# Altium schematic symbol library Transistor_FET_Other.SchLib: 16 symbols
Pins are listed as number, name and electrical type; pins without a type are passive.

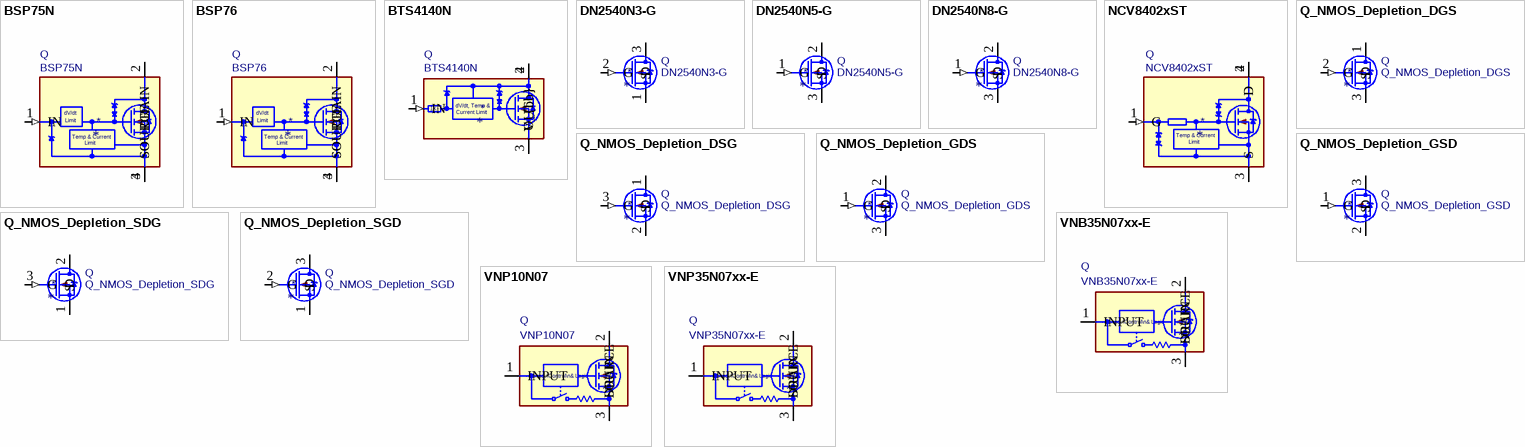
[diagram p0: symbols BSP75N to VNP35N07xx-E]

## BSP75N
designator *  value BSP75N  Reference: Q
Self-Protected Low Side Driver with Temperature and Current Limit, SOT−223; ki_keywords: MOSFET ESD Overcurrent Obsolete; ki_fp_filters: SOT?223*; Footprint: Package_TO_SOT_SMD:SOT-223; Datasheet: https://www.infineon.com/dgdl/Infineon-BSP75N-DS-v01_04-en.pdf?fileId=db3a30431ed1d7b2011f471f5a0256d1; Description_: Self-Protected Low Side Driver with Temperature and Current Limit, SOT−223
pins: 1 IN (in), 2 DRAIN, 3 SOURCE, 4 SOURCE
text: dV/dt; Limit; Temp & Current

## BSP76
designator *  value BSP76  Reference: Q
Self-Protected Low Side Driver with Temperature and Current Limit, 42 V Vds, 1.4 A Id, 200 mOhm Rds, SOT-223; ki_keywords: MOSFET ESD Overcurrent LowSideSwitch automotive; ki_fp_filters: SOT?223*; Footprint: Package_TO_SOT_SMD:SOT-223-3_TabPin2; Datasheet: https://www.infineon.com/dgdl/Infineon-BSP76-DS-v01_03-en.pdf?fileId=db3a3043271faefd01274d00e2695d45; Description_: Self-Protected Low Side Driver with Temperature and Current Limit, 42 V Vds, 1.4 A Id, 200 mOhm Rds, SOT-223
pins: 1 IN (in), 2 DRAIN, 3 SOURCE, 4 SOURCE
text: dV/dt; Limit; Temp & Current

## BTS4140N
designator *  value BTS4140N  Reference: Q
60V, 0.2A, 1ohm Rds, Self-Protected High Side Driver with Temperature and Current Limit, SOT−223; ki_keywords: MOSFET ESD Overcurrent; ki_fp_filters: SOT?223*; Footprint: Package_TO_SOT_SMD:SOT-223; Datasheet: https://www.infineon.com/dgdl/Infineon-BTS4140N-DS-v01_01-EN.pdf?fileId=5546d46259d9a4bf015a852aac8b7785; Description_: 60V, 0.2A, 1ohm Rds, Self-Protected High Side Driver with Temperature and Current Limit, SOT−223
pins: 1 IN (in), 2 V_{bb}, 3 OUT, 4 V_{bb}
text: 1K; Current Limit; dV/dt, Temp &

## DN2540N3-G
designator *  value DN2540N3-G  Reference: Q
150mA Ids, 400 Vds, Depletion-mode N-channel MOSFET, TO-92; ki_keywords: N-Channel Depletion-Mode MOSFET; ki_fp_filters: TO?92*; Footprint: Package_TO_SOT_THT:TO-92_Inline; Datasheet: https://ww1.microchip.com/downloads/en/DeviceDoc/DN2540%20B060313.pdf; Description_: 150mA Ids, 400 Vds, Depletion-mode N-channel MOSFET, TO-92
pins: 1 S, 2 G (in), 3 D

## DN2540N5-G
designator *  value DN2540N5-G  Reference: Q
150mA Ids, 400 Vds, Depletion-mode N-channel MOSFET, TO-220; ki_keywords: N-Channel Depletion-Mode MOSFET; ki_fp_filters: TO?220*; Footprint: Package_TO_SOT_THT:TO-220-3_Vertical; Datasheet: https://ww1.microchip.com/downloads/en/DeviceDoc/DN2540%20B060313.pdf; Description_: 150mA Ids, 400 Vds, Depletion-mode N-channel MOSFET, TO-220
pins: 1 G (in), 2 D, 3 S

## DN2540N8-G
designator *  value DN2540N8-G  Reference: Q
150mA Ids, 400 Vds, Depletion-mode N-channel MOSFET, SOT-89; ki_keywords: N-Channel Depletion-Mode MOSFET; ki_fp_filters: SOT?89*; Footprint: Package_TO_SOT_SMD:SOT-89-3; Datasheet: https://ww1.microchip.com/downloads/en/DeviceDoc/DN2540%20B060313.pdf; Description_: 150mA Ids, 400 Vds, Depletion-mode N-channel MOSFET, SOT-89
pins: 1 G (in), 2 D, 3 S

## NCV8402xST
designator *  value NCV8402xST  Reference: Q
Self-Protected Low Side Driver with Temperature and Current Limit, SOT−223; ki_keywords: MOSFET ESD Overcurrent NCV8402STT1G-obsolete NCV8402STT3G-obsolete NCV8402ASTT1G NCV8402ASTT3G; ki_fp_filters: SOT?223*; Footprint: Package_TO_SOT_SMD:SOT-223; Datasheet: https://www.onsemi.com/pub/Collateral/NCV8402-D.PDF; Description_: Self-Protected Low Side Driver with Temperature and Current Limit, SOT−223
pins: 1 G (in), 2 D, 3 S, 4 D
text: Temp & Current; Limit

## Q_NMOS_Depletion_DGS
designator *  value Q_NMOS_Depletion_DGS  Reference: Q
Depletion-mode N-channel MOSFET, drain/gate/source; ki_keywords: NMOS; Datasheet: ~; Description_: Depletion-mode N-channel MOSFET, drain/gate/source
pins: 1 D, 2 G (in), 3 S

## Q_NMOS_Depletion_DSG
designator *  value Q_NMOS_Depletion_DSG  Reference: Q
Depletion-mode N-channel MOSFET drain/source/gate; ki_keywords: NMOS; Datasheet: ~; Description_: Depletion-mode N-channel MOSFET drain/source/gate
pins: 1 D, 2 S, 3 G (in)

## Q_NMOS_Depletion_GDS
designator *  value Q_NMOS_Depletion_GDS  Reference: Q
Depletion-mode N-channel MOSFET gate/drain/source; ki_keywords: NMOS; Datasheet: ~; Description_: Depletion-mode N-channel MOSFET gate/drain/source
pins: 1 G (in), 2 D, 3 S

## Q_NMOS_Depletion_GSD
designator *  value Q_NMOS_Depletion_GSD  Reference: Q
Depletion-mode N-channel MOSFET gate/source/drain; ki_keywords: NMOS; Datasheet: ~; Description_: Depletion-mode N-channel MOSFET gate/source/drain
pins: 1 G (in), 2 S, 3 D

## Q_NMOS_Depletion_SDG
designator *  value Q_NMOS_Depletion_SDG  Reference: Q
Depletion-mode N-channel MOSFET source/drain/gate; ki_keywords: NMOS; Datasheet: ~; Description_: Depletion-mode N-channel MOSFET source/drain/gate
pins: 1 S, 2 D, 3 G (in)

## Q_NMOS_Depletion_SGD
designator *  value Q_NMOS_Depletion_SGD  Reference: Q
Depletion-mode N-channel MOSFET source/gate/drain; ki_keywords: NMOS; Datasheet: ~; Description_: Depletion-mode N-channel MOSFET source/gate/drain
pins: 1 S, 2 G (in), 3 D

## VNB35N07xx-E
designator *  value VNB35N07xx-E  Reference: Q
Fully autoprotected Power MOSFET, OMNIFET, 35A Ilim, 70V Vclamp, 0.028 ohms Rds(on), diagnostic/fault feedback, TO-263-2 (D2PAK); ki_keywords: N-Channel VIPower ESD VNB35N07-E; ki_fp_filters: *TO*263*; Footprint: Package_TO_SOT_SMD:TO-263-2; Datasheet: https://www.st.com/resource/en/datasheet/vnp35n07-e.pdf; Description_: Fully autoprotected Power MOSFET, OMNIFET, 35A Ilim, 70V Vclamp, 0.028 ohms Rds(on), diagnostic/fault feedback, TO-263-2 (D2PAK)
pins: 1 INPUT (io), 2 DRAIN, 3 SOURCE
text: Gate\nControl\n& Logic

## VNP10N07
designator *  value VNP10N07  Reference: Q
10A Id, 70V Vds, N-Channel Power MOSFET, fully autoprotected, TO-220; ki_keywords: N-Channel Power MOSFET OMNIFET; ki_fp_filters: TO?220*; Footprint: Package_TO_SOT_THT:TO-220-3_Vertical; Datasheet: https://www.st.com/resource/en/datasheet/vnp10n07.pdf; Description_: 10A Id, 70V Vds, N-Channel Power MOSFET, fully autoprotected, TO-220
pins: 1 INPUT (io), 2 DRAIN, 3 SOURCE
text: Gate\nControl\n& Logic

## VNP35N07xx-E
designator *  value VNP35N07xx-E  Reference: Q
Fully autoprotected Power MOSFET, OMNIFET, 35A Ilim, 70V Vclamp, 0.028 ohms Rds(on), diagnostic/fault feedback, TO-220; ki_keywords: N-Channel VIPower ESD VNP35N07-E; ki_fp_filters: *TO*220*Vertical*; Footprint: Package_TO_SOT_THT:TO-220-3_Vertical; Datasheet: https://www.st.com/resource/en/datasheet/vnp35n07-e.pdf; Description_: Fully autoprotected Power MOSFET, OMNIFET, 35A Ilim, 70V Vclamp, 0.028 ohms Rds(on), diagnostic/fault feedback, TO-220
pins: 1 INPUT (io), 2 DRAIN, 3 SOURCE
text: Gate\nControl\n& Logic